# EAGLE library part MICS-SMD10 (library con-lumberg)
CONNECTOR
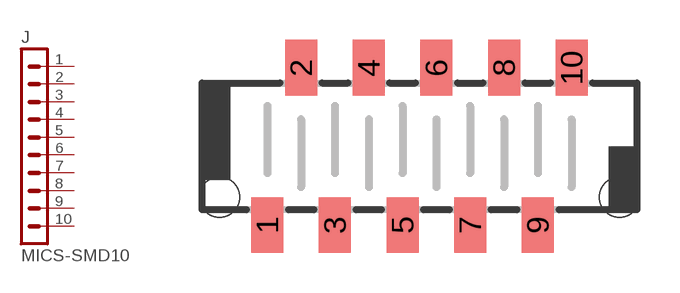
[diagram p13: symbol with the pads of MICSMD10; footprint MICSMD10]

Designator prefix J

## MICS-SMD10  [MICSMD10]
1  1  pas
2  2  pas
3  3  pas
4  4  pas
5  5  pas
6  6  pas
7  7  pas
8  8  pas
9  9  pas
10  10  pas

## Footprint MICSMD10 (pad centres in mm)
CONNECTOR
smd 1.2 x 2.1: 1 -5.715,-2.959; 2 -4.445,2.959; 3 -3.175,-2.959; 4 -1.905,2.959; 5 -0.635,-2.959; 6 0.635,2.959; 7 1.905,-2.959; 8 3.175,2.959; 9 4.445,-2.959; 10 5.715,2.959
hole 1.5 at 7.515,-1.912
hole 1.5 at -7.515,-1.912